# EAGLE library part 74LVCH1T45GS,132 (library 74LVCH1T45GS_132)
74LVC1T45; 74LVCH1T45 - Dual supply translating transceiver; 3-state@en-us Source: Datasheet <https://componentsearchengine.com/Datasheets/1/74LVCH1T45GS,132.pdf>
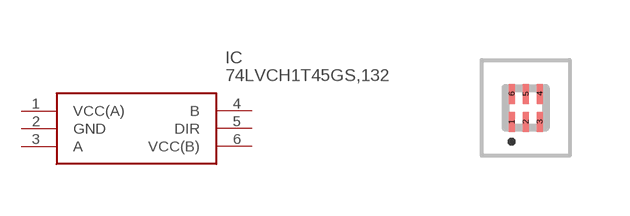
[diagram p0: symbol with the pads of 74LVC1G3157GS132; footprint 74LVC1G3157GS132]

Designator prefix IC

## 74LVCH1T45GS,132 (Description: 74LVC1T45; 74LVCH1T45 - Dual supply translating transceiver; 3-state@en-us; Height: 0.35mm; Manufacturer_Name: Nexperia; Manufacturer_Part_Number: 74LVCH1T45GS,132; Mouser_Part_Number: 771-74LVCH1T45GS132; Mouser_Price-Stock: https://www.mouser.com/Search/Refine.aspx?Keyword=771-74LVCH1T45GS132)  [74LVC1G3157GS132]
1  VCC(A)
2  GND
3  A
4  B
5  DIR
6  VCC(B)

## Footprint 74LVC1G3157GS132 (pad centres in mm)
SOT1202
smd 0.15 x 0.5: 1 -0.35,-0.35; 2 0,-0.35; 3 0.35,-0.35; 4 0.35,0.35; 5 0,0.35; 6 -0.35,0.35